# Altium footprint library 7805.PcbLib: 8 footprints
Each footprint in its own frame and in the unit in brackets; x right, y up, seen from the top. Pads: shape width x height; smd on the part's side, far side on the other; paste and mask are expansions set on the pad; w line width, h text height; cw(c..) or ccw(c..) is an arc to the next point about the centre after c.
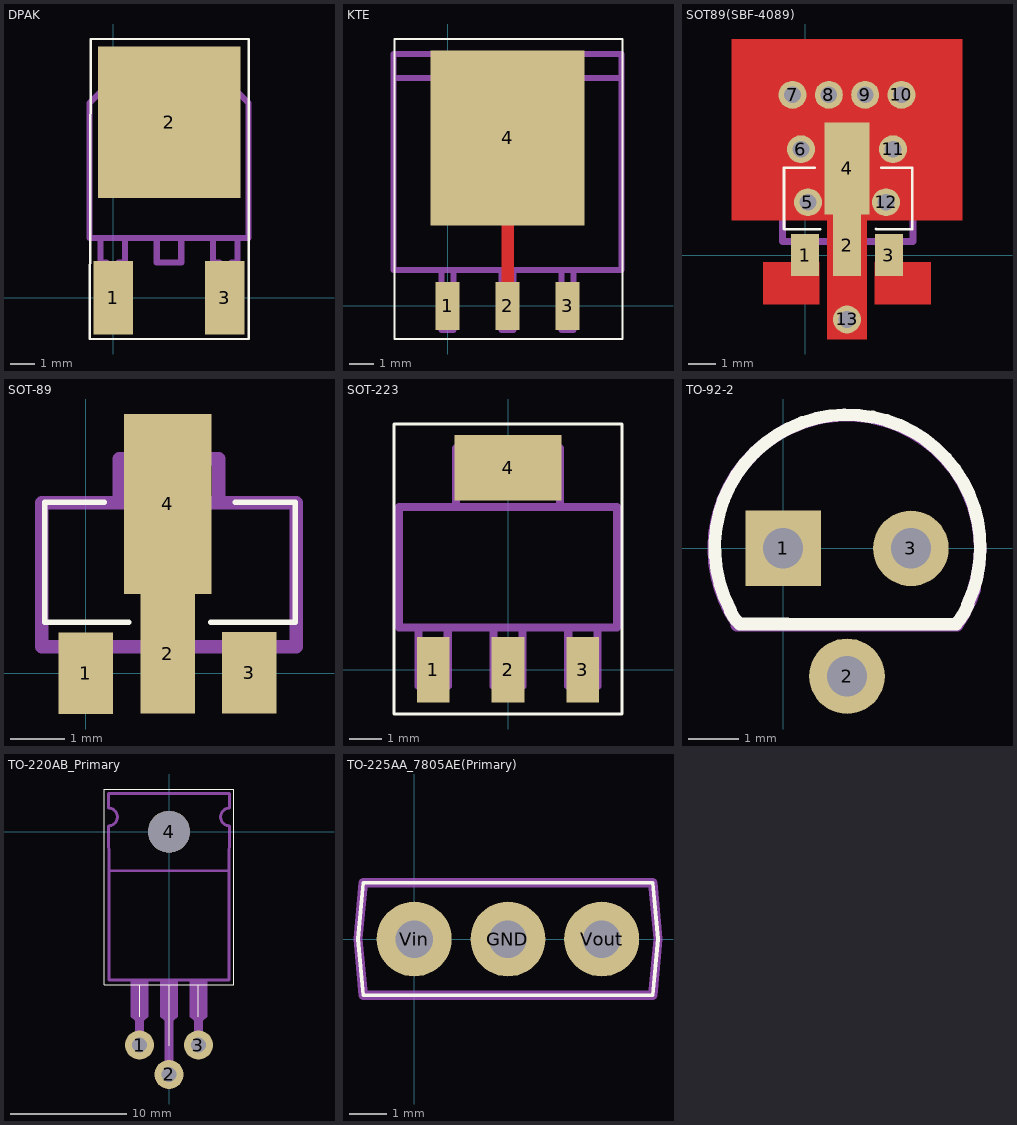
[diagram p0: the footprints below, top view; thin cyan lines are the x and y axes]

## DPAK [mm]
pads (3):
  rect 1.6x3 smd: 1(0,0) 3(4.56,0)
  rect 5.8x6.2 smd: 2(2.29,7.17)
Top Overlay:
  lines w0.1: -0.96,-1.68 5.54,-1.68 5.54,10.57 -0.91,10.57 -0.96,-1.68
Mechanical 1:
  lines w0.1: -0.52,1.45 0.48,1.45 ; -0.27,-0.05 0.23,-0.05 ; 4.08,1.45 5.08,1.45 ; 4.33,-0.05 4.83,-0.05
  lines w0.25: -0.52,2.45 -0.52,1.45 -0.27,1.45 -0.27,-0.8 0.23,-0.8 0.23,1.45 0.48,1.45 0.48,2.45 ; -0.22,8.45 -0.22,8.95 0.03,9.2 1.53,9.2 1.53,8.95 3.03,8.95 3.03,9.2 4.53,9.2 4.78,8.95 4.78,8.45 ; 1.78,2.45 1.78,1.45 2.78,1.45 2.78,2.45 ; 4.08,2.45 4.08,1.45 4.33,1.45 4.33,-0.8 4.83,-0.8 4.83,1.45 5.08,1.45 5.08,2.45 ; -0.97,2.45 5.53,2.45 5.53,7.95 5.03,8.45 -0.47,8.45 -0.97,7.95 -0.97,2.45

## KTE [mm]
pads (4):
  rect 1x2 smd: 1(0,0) 2(2.5,0) 3(5,0)
  rect 6.4x7.3 smd: 4(2.5,7)
Top Layer:
  region: 2.75,0.75 2.75,3.5 2.25,3.5 2.25,0.75
Top Overlay:
  lines w0.1: -2.21,-1.38 7.29,-1.38 7.29,1.37 7.29,11.12 -2.21,11.12 -2.21,-1.38
Mechanical 1:
  lines w0.25: -2.25,9.5 7.25,9.5 ; -0.25,1.5 -0.25,-1 0.25,-1 0.25,1.5 ; 2.25,1.5 2.25,-1 2.75,-1 2.75,1.5 ; 4.75,1.5 4.75,-1 5.25,-1 5.25,1.5 ; -2.25,1.5 7.25,1.5 7.25,10.5 -2.25,10.5 -2.25,1.5

## SOT89(SBF-4089) [mm]
pads (13):
  rect 1x1.5 smd: 1(0,0.004) 3(3,0.01)
  rect 1x2.2 smd: 2(1.5,0.36)
  rect 1.6x3.3 smd: 4(1.5,3.11)
  round 1 hole 0.6: 5(0.1,1.9) 6(-0.15,3.8) 7(-0.45,5.75) 8(0.85,5.75) 9(2.15,5.75) 10(3.45,5.75) 11(3.15,3.8) 12(2.9,1.9) 13(1.5,-2.3)
Top Layer:
  region: 5.625,1.25 5.625,7.75 -2.625,7.75 -2.625,1.25
  region: 4.5,-0.25 2.5,-0.25 2.5,-1.75 4.5,-1.75
  region: 0.8,1.25 0.8,-3 2.2,-3 2.2,1.25
  region: -1.5,-1.75 0.5,-1.75 0.5,-0.25 -1.5,-0.25
Top Overlay:
  lines w0.1: 0.34,3.14 -0.76,3.14 -0.76,0.94 0.54,0.93 ; 2.54,0.94 3.84,0.93 ; 2.74,3.14 3.84,3.14 3.84,0.94
Mechanical 1:
  lines w0.25: -0.254,0.486 -0.254,-0.326 0,-0.326 0.254,-0.326 0.254,0.486 ; 0.61,3.128 0.61,3.941 2.438,3.941 2.438,3.128 ; 1.219,0.486 1.219,-0.326 1.524,-0.326 1.829,-0.326 1.829,0.486 ; 2.794,0.486 2.794,-0.326 3.048,-0.326 3.302,-0.326 3.302,0.486 ; -0.813,0.486 3.861,0.486 3.861,3.128 -0.813,3.128 -0.813,0.486

## SOT-89 [mm]
pads (4):
  rect 1x1.5 smd: 1(0,0.004) 3(3,0.01)
  rect 1x2.2 smd: 2(1.5,0.36)
  rect 1.6x3.3 smd: 4(1.5,3.11)
Top Overlay:
  lines w0.1: 0.34,3.14 -0.76,3.14 -0.76,0.94 0.79,0.94 ; 2.29,0.94 3.84,0.94 3.84,3.14 2.74,3.14
Mechanical 1:
  lines w0.25: -0.254,0.486 -0.254,-0.326 0,-0.326 0.254,-0.326 0.254,0.486 ; 0.61,3.128 0.61,3.941 2.438,3.941 2.438,3.128 ; 1.219,0.486 1.219,-0.326 1.524,-0.326 1.829,-0.326 1.829,0.486 ; 2.794,0.486 2.794,-0.326 3.048,-0.326 3.302,-0.326 3.302,0.486 ; -0.813,0.486 3.861,0.486 3.861,3.128 -0.813,3.128 -0.813,0.486

## SOT-223 [mm]
pads (4):
  rect 1x2 smd: 1(-2.3,0) 2(0,0) 3(2.3,0)
  rect 3.3x2 smd: 4(0,6.2)
Top Overlay:
  lines w0.1: -3.5,-1.36 3.5,-1.36 3.5,7.54 -3.5,7.54 -3.5,-1.36
Mechanical 1:
  lines w0.25: -2.75,1.3 -2.75,-0.5 -1.85,-0.5 -1.85,1.3 ; -1.6,5.05 -1.6,6.8 1.6,6.8 1.6,5.05 ; -0.45,1.3 -0.45,-0.5 0.45,-0.5 0.45,1.3 ; 1.85,1.3 1.85,-0.5 2.75,-0.5 2.75,1.3 ; -3.35,1.3 3.35,1.3 3.35,5 -3.35,5 -3.35,1.3

## TO-92-2 [mm]
pads (3):
  rect 1.5x1.5 hole 0.8: 1(0,0)
  round 1.5 hole 0.8: 2(1.27,-2.54) 3(2.54,0)
Top Overlay:
  lines w0.25: -1.051,-1.245 ccw(c-0.235,-0.843) -0.86,-1.504 ; -1.039,-1.237 cw(c1.282,0.017) 3.66,-1.123 ; -0.856,-1.503 0.084,-1.503 ; 0.086,-1.504 3.419,-1.503 ; 3.434,-1.505 ccw(c2.324,-0.536) 3.679,-1.114
Mechanical 1:
  lines w0.025: 1.245,2.667 1.27,2.667
  lines w0.25: -1.243,0.816 ccw(c1.168,0) -1.243,-0.816 ccw(c1.27,0) -0.895,-1.516 ; -1.055,-1.257 cw(c1.27,0) 3.675,-1.096 ; -0.914,-1.524 3.454,-1.524 ccw(c1.27,0) 3.805,-0.819 ; 3.785,-0.812 ccw(c1.27,0) 3.785,0.812

## TO-220AB_Primary [mm]
pads (4):
  round 2.5 hole 1.3: 1(-2.54,-18.388) 2(0,-20.928) 3(2.54,-18.388)
  round 3.6 hole 3.6 unplated: 4(0,0)
Top Overlay:
  lines w0.1: -2.54,-15.965 -2.54,-13.18 ; 0,-18.465 0,-13.18 ; 2.54,-15.965 2.54,-13.18 ; -5.56,-13.18 5.56,-13.18 5.56,3.68 -5.56,3.68 -5.56,-13.18
Mechanical 1:
  circle w0.254: c0,0 r1.6
  region: 0.375,-16.308 -0.375,-16.308 -0.375,-21.178 0,-21.178 0.375,-21.178
  region: -0.75,-12.92 -0.75,-15.933 -0.375,-16.308 0.375,-16.308 0.75,-15.933 0.75,-12.92
  region: 2.915,-16.308 2.165,-16.308 2.165,-18.638 2.54,-18.638 2.915,-18.638
  region: -2.165,-16.308 -2.915,-16.308 -2.915,-18.638 -2.54,-18.638 -2.165,-18.638
  region: 1.8,-12.92 1.79,-15.933 2.165,-16.308 2.915,-16.308 3.29,-15.933 3.3,-12.92
  region: -3.3,-12.92 -3.29,-15.933 -2.915,-16.308 -2.165,-16.308 -1.79,-15.933 -1.8,-12.92 -2.55,-12.92
  lines w0.25: -5.207,0.508 -5.18,-3.37 ; -5.207,2.032 -5.207,3.302 ; 5.207,0.508 5.18,-3.37 ; -5.18,-3.37 5.18,-3.37 ; -5.18,-3.37 -5.18,-12.8 5.18,-12.8 5.18,-3.37
  lines w0.254: -5.207,0.508 ccw(c-5.207,1.27) -5.207,2.032 ; -5.207,3.302 5.207,3.302 5.207,2.032 ccw(c5.207,1.27) 5.207,0.508
  text "2" at -0.508,-12.573 h0.79
  text "3" at 2.159,-12.573 h0.79
  text "1" at -3.048,-12.573 h0.79

## TO-225AA_7805AE(Primary) [mm]
pads (3):
  round 2 hole 1: GND(2.5,0) Vin(0,0) Vout(5,0)
Top Overlay:
  lines w0.1: -1.5,0.002 -1.357,1.502 6.357,1.502 6.5,0.002 6.357,-1.498 -1.357,-1.498 -1.5,0.002
Mechanical 1:
  lines w0.25: -1.5,0.002 -1.357,1.502 6.357,1.502 6.5,0.002 6.357,-1.498 -1.357,-1.498 -1.5,0.002